# EAGLE library part NPTC042KFMS-RC (library NPTC042KFMS-RC)
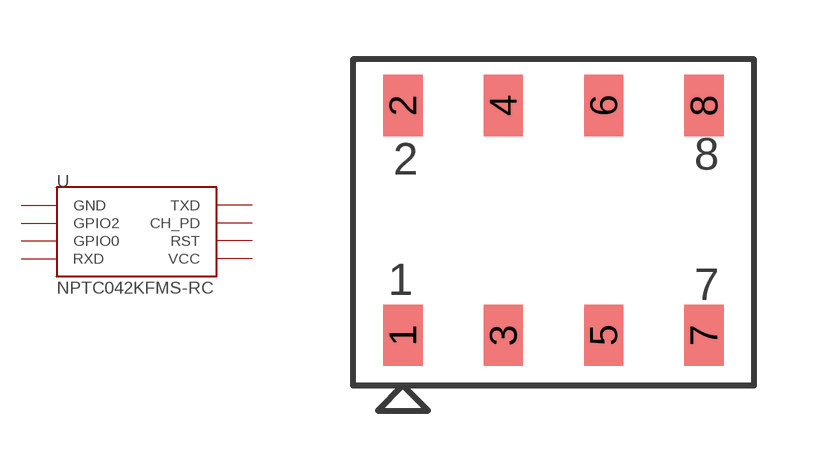
[diagram p0: symbol with the pads of NPTC042KFMS-RC; footprint NPTC042KFMS-RC]

Designator prefix -

## NPTC042KFMS-RC  [NPTC042KFMS-RC]
1  TXD
2  GND
3  CH_PD
4  GPIO2
5  RST
6  GPIO0
7  VCC
8  RXD

## Footprint NPTC042KFMS-RC (pad centres in mm)
smd 0.991 x 1.549: 1 0,0; 2 0,5.817; 3 2.54,0; 4 2.54,5.817; 5 5.08,0; 6 5.08,5.817; 7 7.62,0; 8 7.62,5.817